# Altium footprint library PCB - CONNECTOR - WURTH - 7461383.PCBLIB: 1 footprints
Each footprint in its own frame and in the unit in brackets; x right, y up, seen from the top. Pads: shape width x height; smd on the part's side, far side on the other; paste and mask are expansions set on the pad; w line width, h text height; cw(c..) or ccw(c..) is an arc to the next point about the centre after c.
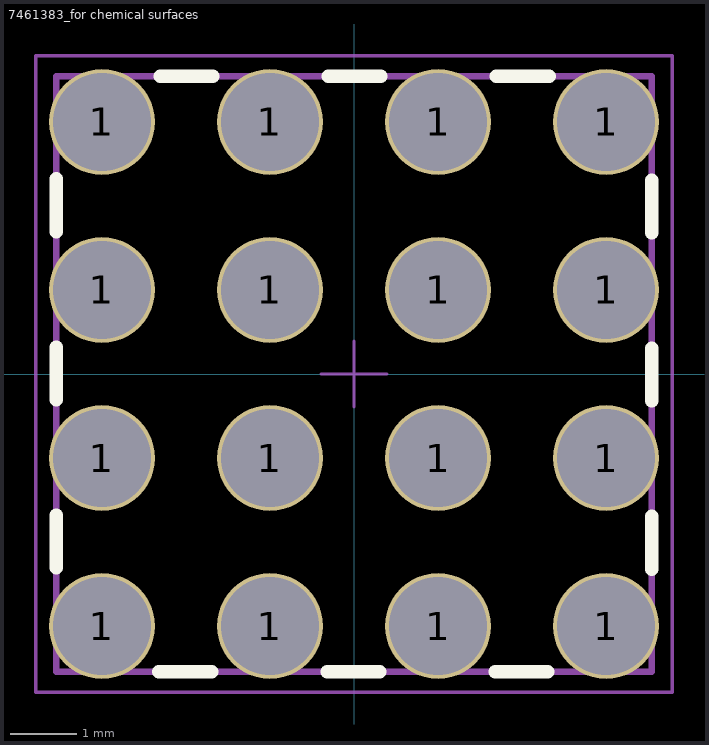
[diagram p0: the footprint, top view; thin cyan lines are the x and y axes]

## 7461383_for chemical surfaces [mm] "M5, thread 8mm"
height 12.5
pads (16):
  round 1.6 hole 1.475: 1(-3.81,-3.81) 1(-3.81,-1.27) 1(-3.81,1.27) 1(-3.81,3.81) 1(-1.27,-3.81) 1(-1.27,-1.27) 1(-1.27,1.27) 1(-1.27,3.81) 1(1.27,-3.81) 1(1.27,-1.27) 1(1.27,1.27) 1(1.27,3.81) 1(3.81,-3.81) 1(3.81,-1.27) 1(3.81,1.27) 1(3.81,3.81)
Top Overlay:
  lines w0.2: -4.5,-2.93 -4.5,-2.13 ; -4.5,-0.39 -4.5,0.41 ; -4.5,2.15 -4.5,2.95 ; -2.95,-4.5 -2.15,-4.5 ; -2.93,4.5 -2.13,4.5 ; -0.41,-4.5 0.39,-4.5 ; -0.39,4.5 0.41,4.5 ; 2.13,-4.5 2.93,-4.5 ; 2.15,4.5 2.95,4.5 ; 4.5,-2.95 4.5,-2.15 ; 4.5,-0.41 4.5,0.39 ; 4.5,2.13 4.5,2.93
Top Assembly:
  lines w0.1: -4.5,-4.5 -4.5,4.5 4.5,4.5 4.5,-4.5 -4.5,-4.5
Top Courtyard:
  lines w0.05: -4.81,-4.81 -4.81,4.81 4.81,4.81 4.81,-4.81 -4.81,-4.81
Top Designator:
  text ".Designator" at -4.572,6.731 h1
Top Component Center:
  lines w0.05: -0.5,0 0.5,0 ; 0,-0.5 0,0.5
Top Value (Mech13):
  text ".Comment" at -4.572,5.715 h1
3D body "7461383.stp": height 12.5, standoff -3.5, extent -4.5,-4.5 4.5,4.5